# Altium footprint library FRP3-102_LAN Switch & Power Distribution Module.PcbLib: 29 footprints (part 2 of 2)
Each footprint in its own frame and in the unit in brackets; x right, y up, seen from the top. Pads: shape width x height; smd on the part's side, far side on the other; paste and mask are expansions set on the pad; w line width, h text height; cw(c..) or ccw(c..) is an arc to the next point about the centre after c.
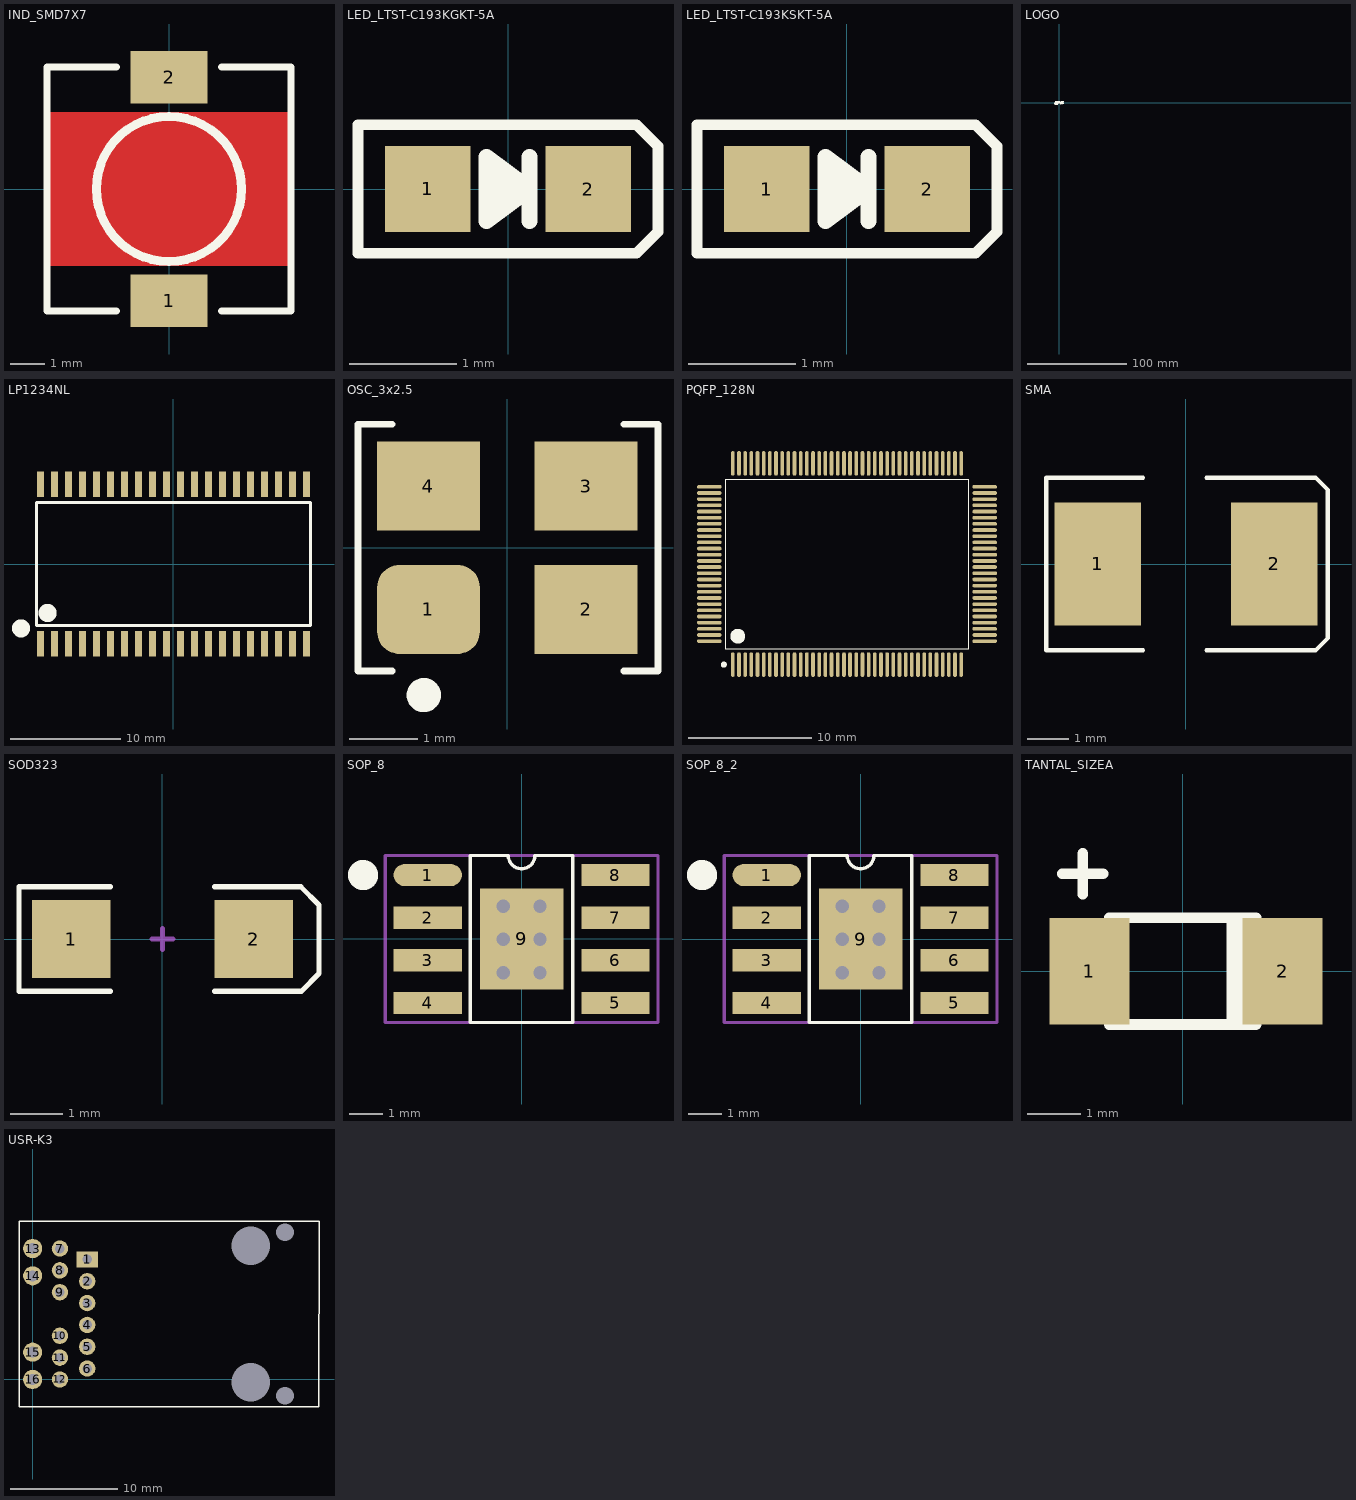
[diagram p1: the footprints below, top view; thin cyan lines are the x and y axes]

## IND_SMD7X7 [mm]
pads (2):
  rect 2.2x1.5 smd: 1(0,-3.2) 2(0,3.2)
Top Layer:
  pour cut-out: -3.5,2.2 3.5,2.2 3.5,-2.2 -3.5,-2.2
Top Overlay:
  circle w0.254: c0,0 r2.081
  lines w0.2: -1.5,-3.5 -3.5,-3.5 -3.5,3.5 -1.5,3.5 ; 1.5,-3.5 3.5,-3.5 3.5,3.5 1.5,3.5
3D body "TDK SLF032 Coil.step": height 4.51, standoff -0.1, extent -3.5,-3.65 3.5,3.55

## LED_LTST-C193KGKT-5A [mm]
pads (2):
  rect 0.8x0.8 smd: 1(-0.75,0) 2(0.75,0)
Top Overlay:
  lines w0.1: -1.4,-0.6 1.2,-0.6 1.4,-0.4 1.4,0.1 1.4,0.4 1.2,0.6 -1.4,0.6 -1.4,-0.6
  lines w0.15: -0.1,0.225 0,-0.15 ; 0.2,-0.3 0.2,0.3 ; -0.2,-0.3 0.2,0 ; -0.2,-0.3 -0.2,0.3 0.2,0 ; -0.2,-0.3 -0.05,0.038 0.2,0
3D body "User Library-LTST-C193KGKT.x_t": height 0.35, standoff 0, extent -0.79,-0.4 0.8,0.4

## LED_LTST-C193KSKT-5A [mm]
pads (2):
  rect 0.8x0.8 smd: 1(-0.75,0) 2(0.75,0)
Top Overlay:
  lines w0.1: -1.4,-0.6 1.2,-0.6 1.4,-0.4 1.4,0.1 1.4,0.4 1.2,0.6 -1.4,0.6 -1.4,-0.6
  lines w0.15: -0.1,0.225 0,-0.15 ; 0.2,-0.3 0.2,0.3 ; -0.2,-0.3 0.2,0 ; -0.2,-0.3 -0.2,0.3 0.2,0 ; -0.2,-0.3 -0.05,0.038 0.2,0
3D body "User Library-LTST-C193KSKT.x_t": height 0.35, standoff 0, extent -0.79,-0.4 0.8,0.4

## LOGO [mm]
Top Overlay:
  drawing of 600 lines, arcs and shapes, not listed

## LP1234NL [mil]
pads (40):
  rect 25x90 smd: 1(-475,-285) 2(-425,-285) 3(-375,-285) 4(-325,-285) 5(-275,-285) 6(-225,-285) 7(-175,-285) 8(-125,-285) 9(-75,-285) 10(-25,-285) 11(25,-285) 12(75,-285) 13(125,-285) 14(175,-285) 15(225,-285) 16(275,-285) 17(325,-285) 18(375,-285) 19(425,-285) 20(475,-285) 21(475,285) 22(425,285) 23(375,285) 24(325,285) 25(275,285) 26(225,285) 27(175,285) 28(125,285) 29(75,285) 30(25,285) 31(-25,285) 32(-75,285) 33(-125,285) 34(-175,285) 35(-225,285) 36(-275,285) 37(-325,285) 38(-375,285) 39(-425,285) 40(-475,285)
Top Overlay:
  circle w50: c-545,-230 r7.07
  circle w50: c-450,-175 r7.07
  lines w10: -490,-220 490,-220 490,220 -490,220 -490,-220
3D body "LP1234NL Transformer Array.stp": height 224.41, standoff 0, extent -551.18,-314.96 551.18,314.96

## OSC_3x2.5 [mm]
pads (4):
  rrect50% 1.5x1.3 smd mask+0.15: 1(-1.15,-0.9)
  rect 1.5x1.3 smd mask+0.15: 2(1.15,-0.9) 3(1.15,0.9) 4(-1.15,0.9)
Top Overlay:
  circle w0.25: c-1.218,-2.151 r0.125
  lines w0.1: -1.679,-1.798 -2.179,-1.798 -2.179,1.802 -1.679,1.802 ; 1.7,-1.798 2.2,-1.798 2.2,1.802 1.7,1.802
3D body "Crystal TXC Corp 7M series.STEP": height 0.8, standoff 0, extent -1.65,-1.3 1.65,1.3

## PQFP_128N [mm]
pads (128):
  oval 0.3x2 smd: 1(-645.238,-854.458) 2(-644.738,-854.458) 3(-644.238,-854.458) 4(-643.738,-854.458) 5(-643.238,-854.458) 6(-642.738,-854.458) 7(-642.238,-854.458) 8(-641.738,-854.458) 9(-641.238,-854.458) 10(-640.738,-854.458) 11(-640.238,-854.458) 12(-639.738,-854.458) 13(-639.238,-854.458) 14(-638.738,-854.458) 15(-638.238,-854.458) 16(-637.738,-854.458) 17(-637.238,-854.458) 18(-636.738,-854.458) 19(-636.238,-854.458) 20(-635.738,-854.458) 21(-635.238,-854.458) 22(-634.738,-854.458) 23(-634.238,-854.458) 24(-633.738,-854.458) 25(-633.238,-854.458) 26(-632.738,-854.458) 27(-632.238,-854.458) 28(-631.738,-854.458) 29(-631.238,-854.458) 30(-630.738,-854.458) 31(-630.238,-854.458) 32(-629.738,-854.458) 33(-629.238,-854.458) 34(-628.738,-854.458) 35(-628.238,-854.458) 36(-627.738,-854.458) 37(-627.238,-854.458) 38(-626.738,-854.458) 65(-626.738,-838.158) 66(-627.238,-838.158) 67(-627.738,-838.158) 68(-628.238,-838.158) 69(-628.738,-838.158) 70(-629.238,-838.158) 71(-629.738,-838.158) 72(-630.238,-838.158) 73(-630.738,-838.158) 74(-631.238,-838.158) 75(-631.738,-838.158) 76(-632.238,-838.158) 77(-632.738,-838.158) 78(-633.238,-838.158) 79(-633.738,-838.158) 80(-634.238,-838.158) 81(-634.738,-838.158) 82(-635.238,-838.158) 83(-635.738,-838.158) 84(-636.238,-838.158) 85(-636.738,-838.158) 86(-637.238,-838.158) 87(-637.738,-838.158) 88(-638.238,-838.158) 89(-638.738,-838.158) 90(-639.238,-838.158) 91(-639.738,-838.158) 92(-640.238,-838.158) 93(-640.738,-838.158) 94(-641.238,-838.158) 95(-641.738,-838.158) 96(-642.238,-838.158) 97(-642.738,-838.158) 98(-643.238,-838.158) 99(-643.738,-838.158) 100(-644.238,-838.158) 101(-644.738,-838.158) 102(-645.238,-838.158)
  oval 2x0.3 smd: 39(-624.838,-852.558) 40(-624.838,-852.058) 41(-624.838,-851.558) 42(-624.838,-851.058) 43(-624.838,-850.558) 44(-624.838,-850.058) 45(-624.838,-849.558) 46(-624.838,-849.058) 47(-624.838,-848.558) 48(-624.838,-848.058) 49(-624.838,-847.558) 50(-624.838,-847.058) 51(-624.838,-846.558) 52(-624.838,-846.058) 53(-624.838,-845.558) 54(-624.838,-845.058) 55(-624.838,-844.558) 56(-624.838,-844.058) 57(-624.838,-843.558) 58(-624.838,-843.058) 59(-624.838,-842.558) 60(-624.838,-842.058) 61(-624.838,-841.558) 62(-624.838,-841.058) 63(-624.838,-840.558) 64(-624.838,-840.058) 103(-647.138,-840.058) 104(-647.138,-840.558) 105(-647.138,-841.058) 106(-647.138,-841.558) 107(-647.138,-842.058) 108(-647.138,-842.558) 109(-647.138,-843.058) 110(-647.138,-843.558) 111(-647.138,-844.058) 112(-647.138,-844.558) 113(-647.138,-845.058) 114(-647.138,-845.558) 115(-647.138,-846.058) 116(-647.138,-846.558) 117(-647.138,-847.058) 118(-647.138,-847.558) 119(-647.138,-848.058) 120(-647.138,-848.558) 121(-647.138,-849.058) 122(-647.138,-849.558) 123(-647.138,-850.058) 124(-647.138,-850.558) 125(-647.138,-851.058) 126(-647.138,-851.558) 127(-647.138,-852.058) 128(-647.138,-852.558)
Top Overlay:
  circle w0.6: c-644.838,-852.158 r0.3
  circle w0.25: c-645.963,-854.458 r0.125
  lines w0.1: -645.838,-853.158 -645.838,-839.458 -626.138,-839.458 -626.138,-853.158 -645.838,-853.158
3D body "User Library-PQFP128.X_T": height 2.85, standoff -0.03, extent -647.573,-854.894 -624.371,-837.692

## SMA [mm]
pads (2):
  rect 2.1x3 smd: 1(-2.15,0) 2(2.15,0)
Top Overlay:
  lines w0.1: -1.05,-2.1 -3.4,-2.1 -3.4,2.1 -1.05,2.1 ; 0.5,-2.1 3.15,-2.1 3.45,-1.8 3.45,1.8 3.15,2.1 0.5,2.1
3D body "User Library-DO-214AC(SMA).x_t": height 2.44, standoff 0.16, extent -2.743,-1.397 2.743,1.397

## SOD323 [mm]
pads (2):
  rect 1.5x1.5 smd: 1(-1.75,0) 2(1.75,0)
Top Overlay:
  lines w0.1: -1,-1 -2.75,-1 -2.75,1 -1,1 ; 1,-1 2.663,-1 3,-0.662 3,0.65 2.65,1 1,1
Mechanical 1:
  lines w0.1: -0.2,0 0.2,0 ; 0,-0.2 0,0.2
3D body "SOD-80C.STEP": height 1.6, standoff 0, extent -1.774,-0.778 1.926,0.829

## SOP_8 [mil]
pads (9):
  oval 80x26 smd: 1(-110,75)
  rect 80x26 smd: 2(-110,25) 3(-110,-25) 4(-110,-75) 5(110,-75) 6(110,-25) 7(110,25) 8(110,75)
  rect 98x118 smd: 9(0,0)
via -21.26,-0.39 diameter 23.62 hole 15.75
via 21.65,-0.39 diameter 23.62 hole 15.75
via 21.65,38.58 diameter 23.62 hole 15.75
via 21.65,-39.37 diameter 23.62 hole 15.75
via -21.26,-39.37 diameter 23.62 hole 15.75
via -21.26,38.58 diameter 23.62 hole 15.75
Top Overlay:
  circle w23.62: c-185.91,75 r5.91
  lines w3.94: -60,-98 60,-98 60,98 15.62,98 cw(c0,98) -15.62,98 -60,98 -60,-98
Mechanical 15:
  lines w3.94: -19.68,0 19.69,0 ; 0,-19.68 0,19.69 ; -160,-98 -160,98 160,98 160,-98 -160,-98
3D body "SOIC08 narrow.stp": height 78.74, standoff 0.13, extent -121.32,-98.43 121.32,98.42

## SOP_8_2 [mil]
pads (9):
  oval 80x26 smd: 1(-110,75)
  rect 80x26 smd: 2(-110,25) 3(-110,-25) 4(-110,-75) 5(110,-75) 6(110,-25) 7(110,25) 8(110,75)
  rect 98x118 smd: 9(0,0)
via -21.26,38.58 diameter 23.62 hole 15.75
via -21.26,-39.37 diameter 23.62 hole 15.75
via 21.65,-39.37 diameter 23.62 hole 15.75
via 21.65,38.58 diameter 23.62 hole 15.75
via 21.65,-0.39 diameter 23.62 hole 15.75
via -21.26,-0.39 diameter 23.62 hole 15.75
Top Overlay:
  circle w23.62: c-185.91,75 r5.91
  lines w3.94: -60,-98 -60,98 -15.62,98 ccw(c0,98) 15.62,98 60,98 60,-98 -60,-98
Mechanical 15:
  lines w3.94: -19.68,0 19.68,0 ; 0,-19.68 0,19.69 ; -160,-98 160,-98 160,98 -160,98 -160,-98
3D body "SOIC08 narrow.stp": height 78.74, standoff 0.13, extent -121.32,-98.43 121.32,98.42

## TANTAL_SIZEA [mm]
pads (2):
  rect 1.5x2 smd: 1(-1.75,0) 2(1.875,0)
Top Overlay:
  region: 1.375,1 0.825,1 0.825,-1 1.375,-1
  lines w0.2: -2.256,1.823 -1.494,1.823 ; -1.875,1.442 -1.875,2.204 ; -1.375,-1 1.375,-1 1.375,1 -1.375,1
3D body "75450.stp": height 1.81, standoff 0.01, extent -1.45,-0.925 1.95,0.875

## USR-K3 [mil]
pads (20):
  rect 80x60 hole 35: 1(200,440)
  round 60 hole 35: 2(200,360) 3(200,280) 4(200,200) 5(200,120) 6(200,40) 7(100,480) 8(100,400) 9(100,320) 10(100,160) 11(100,80) 12(100,0)
  round 70 hole 40: 13(0,480) 14(0,380) 15(0,100) 16(0,0)
  round 60 hole 140: ""(800,-10) ""(800,490)
  round 60 hole 65: ""(925,540) ""(925,-60)
Top Overlay:
  lines w5: -50,-100 -50,580 1050,580 1050,-100 -50,-100
3D body "User Library-ARJE-0034 (1).step": height 675.34, standoff 2.95, extent -18.5,-171.59 1055.55,641.6